# EAGLE library part 74*595 (library IC_Logic)
8-bit SHIFT REGISTER, output latch
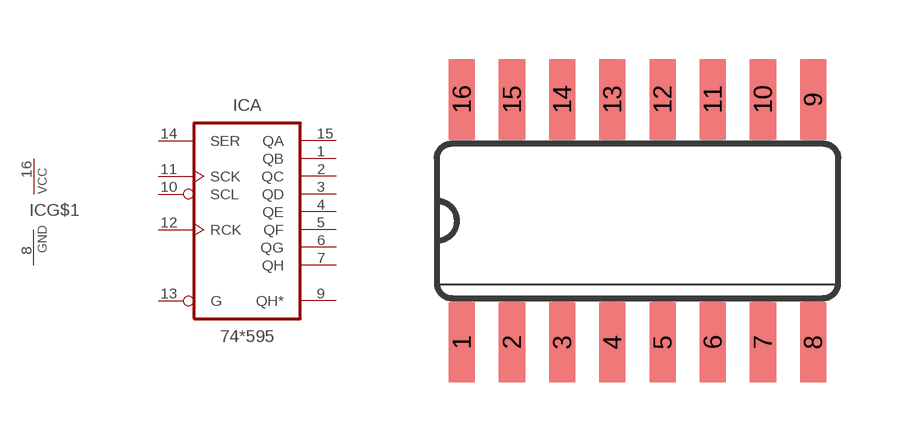
[diagram p3: symbol with the pads of SO16; footprint SO16]

Designator prefix IC; gates A=74595 G$1=PWRN

## 74HC595D (CATEGORY: IC_Logic; SUB-CATEGORY: Shift Register), 74HCT595D (CATEGORY: IC_Logic; SUB-CATEGORY: Shift Register)  [SO16]
1  A:QB  hiz
2  A:QC  hiz
3  A:QD  hiz
4  A:QE  hiz
5  A:QF  hiz
6  A:QG  hiz
7  A:QH  hiz
8  G$1:GND  pwr
9  A:QH*  hiz
10  A:SCL  in
11  A:SCK  in
12  A:RCK  in
13  A:G  in
14  A:SER  in
15  A:QA  hiz
16  G$1:VCC  pwr

## Footprint SO16 (pad centres in mm)
Small Outline package 150 mil
smd 0.66 x 2.032: 1 -4.445,-3.073; 2 -3.175,-3.073; 3 -1.905,-3.073; 4 -0.635,-3.073; 5 0.635,-3.073; 6 1.905,-3.073; 7 3.175,-3.073; 8 4.445,-3.073; 9 4.445,3.073; 10 3.175,3.073; 11 1.905,3.073; 12 0.635,3.073; 13 -0.635,3.073; 14 -1.905,3.073; 15 -3.175,3.073; 16 -4.445,3.073